# Altium schematic symbol library ST1S.SchLib: 1 symbol
Pins are listed as number, name and electrical type; pins without a type are passive.

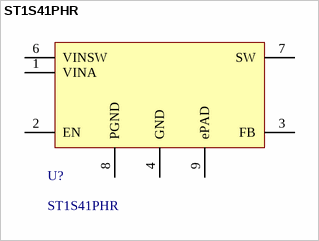
[diagram p0: symbol ST1S41PHR]

## ST1S41PHR
designator U?
4A Step Down Switching Regulator
footprint HSOP8
pins: 1 VINA (power), 2 EN, 3 FB, 4 GND (power), 6 VINSW (power), 7 SW (power), 8 PGND (power), 9 ePAD (power)